# Altium schematic symbol library MT48LC4M32B2.Schlib: 1 symbol
Pins are listed as number, name and electrical type; pins without a type are passive.

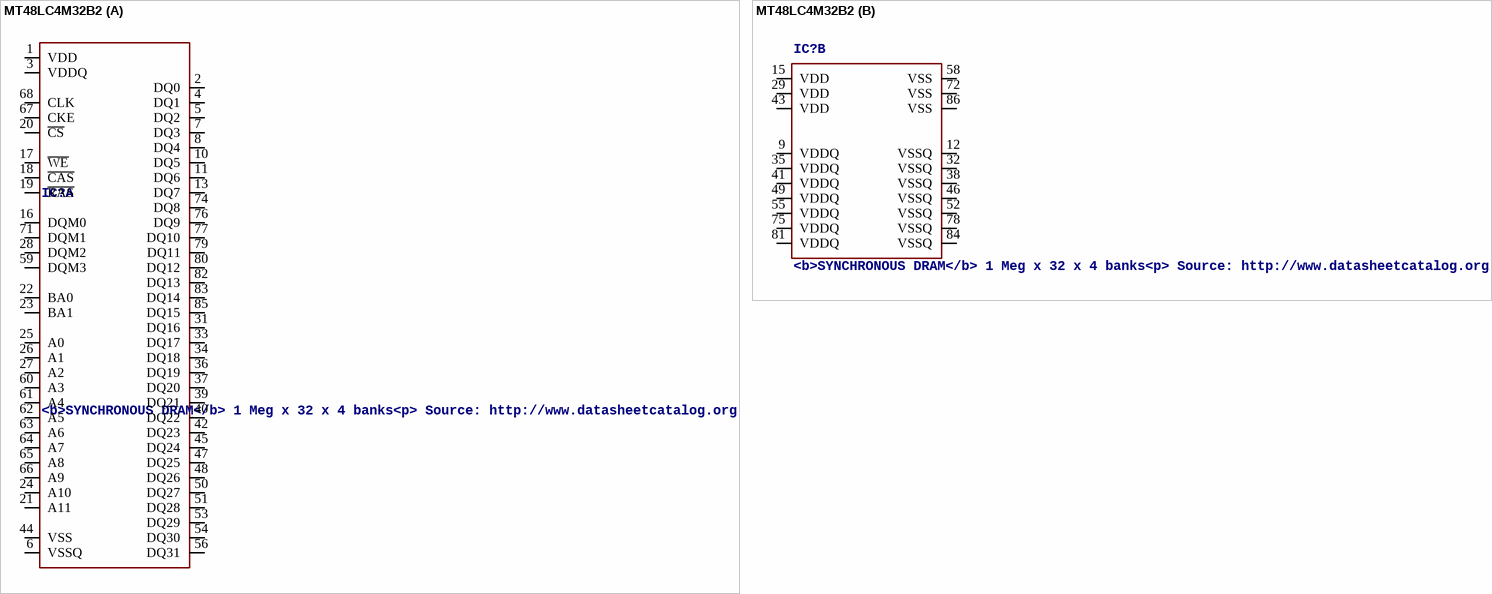
[diagram p0: symbol MT48LC4M32B2]

## MT48LC4M32B2
designator IC?, comment <b>SYNCHRONOUS DRAM</b> 1 Meg x 32 x 4 banks<p> / Source: http://www.datasheetcatalog.org/datasheet/micron/MT48LC4M32B2.pdf
MPN: MT48LC4M32B2P-6:G; OC_FARNELL: 1216286; OC_NEWARK: 97K6124
footprint TSOP86
part A pins: 1 VDD (power), 2 DQ0, 3 VDDQ (power), 4 DQ1, 5 DQ2, 6 VSSQ (power), 7 DQ3, 8 DQ4, 10 DQ5, 11 DQ6, 13 DQ7, 16 DQM0, 17 ~{WE}, 18 ~{CAS}, 19 ~{RAS}, 20 ~{CS}, 21 A11, 22 BA0, 23 BA1, 24 A10, 25 A0, 26 A1, 27 A2, 28 DQM2, 31 DQ16, 33 DQ17, 34 DQ18, 36 DQ19, 37 DQ20, 39 DQ21, 40 DQ22, 42 DQ23, 44 VSS (power), 45 DQ24, 47 DQ25, 48 DQ26, 50 DQ27, 51 DQ28, 53 DQ29, 54 DQ30, 56 DQ31, 59 DQM3, 60 A3, 61 A4, 62 A5, 63 A6, 64 A7, 65 A8, 66 A9, 67 CKE, 68 CLK, 71 DQM1, 74 DQ8, 76 DQ9, 77 DQ10, 79 DQ11, 80 DQ12, 82 DQ13, 83 DQ14, 85 DQ15
part B pins: 9 VDDQ (power), 12 VSSQ (power), 15 VDD (power), 29 VDD (power), 32 VSSQ (power), 35 VDDQ (power), 38 VSSQ (power), 41 VDDQ (power), 43 VDD (power), 46 VSSQ (power), 49 VDDQ (power), 52 VSSQ (power), 55 VDDQ (power), 58 VSS (power), 72 VSS (power), 75 VDDQ (power), 78 VSSQ (power), 81 VDDQ (power), 84 VSSQ (power), 86 VSS (power)